# Altium schematic symbol library ring_23_14_10.SchLib: 1 symbol
Pins are listed as number, name and electrical type; pins without a type are passive.

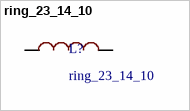
[diagram p0: symbol ring_23_14_10]

## ring_23_14_10
designator L?
footprint ring_23_14_10
pins: 1, 2